# EAGLE library part MC33HB2001 (library Bits_library_eagle)
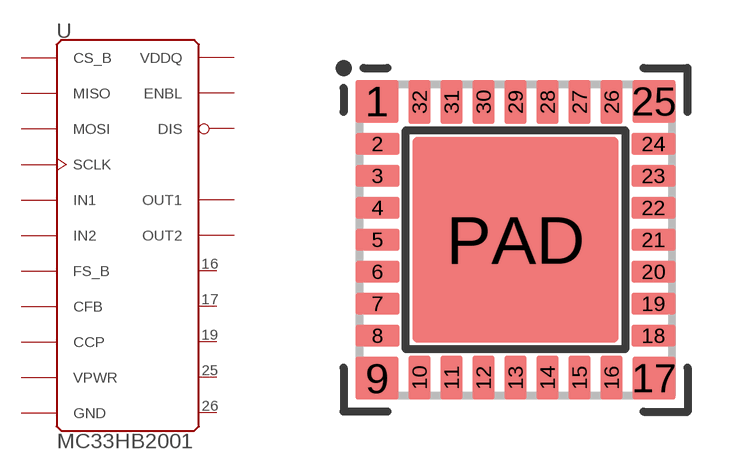
[diagram p71: symbol with the pads of 32-PIN_PQFN_MINSPEC; footprint 32-PIN_PQFN_MINSPEC]

Designator prefix U

## MC33HB2001MINSPEC  [32-PIN_PQFN_MINSPEC]
1  VDDQ  pwr
2  MISO
3  SCLK
4  MOSI
5  GND  pwr
6  GND  pwr
7  ENBL  in
8  DIS  in
9  IN2  in
10  IN1  in
11  CFB  out
12  VPWR  pwr
13  VPWR  pwr
14  OUT1  out
15  OUT1  out
16  P$1  nc
17  P$2  nc
18  FS_B  out
19  P$3  nc
20  GND  pwr
21  GND  pwr
22  GND  pwr
23  GND  pwr
24  GND  pwr
25  P$4  nc
26  P$5  nc
27  OUT2  out
28  OUT2  out
29  VPWR  pwr
30  VPWR  pwr
31  CCP  pwr
32  CS_B
PAD  GND  pwr

## Footprint 32-PIN_PQFN_MINSPEC (pad centres in mm)
smd 1.073 x 1.073: 1 -3.463,3.463; 9 -3.463,-3.463; 17 3.463,-3.463; 25 3.463,3.463
smd 1.1 x 0.546: 2 -3.45,2.4; 3 -3.45,1.6; 4 -3.45,0.8; 5 -3.45,0; 6 -3.45,-0.8; 7 -3.45,-1.6; 8 -3.45,-2.4; 18 3.45,-2.4; 19 3.45,-1.6; 20 3.45,-0.8; 21 3.45,0; 22 3.45,0.8; 23 3.45,1.6; 24 3.45,2.4
smd 0.546 x 1.1: 10 -2.4,-3.45; 11 -1.6,-3.45; 12 -0.8,-3.45; 13 0,-3.45; 14 0.8,-3.45; 15 1.6,-3.45; 16 2.4,-3.45; 26 2.4,3.45; 27 1.6,3.45; 28 0.8,3.45; 29 0,3.45; 30 -0.8,3.45; 31 -1.6,3.45; 32 -2.4,3.45
smd 5.15 x 5.15: PAD 0,0